# Altium schematic symbol library 2N3904.SchLib: 1 symbol
Pins are listed as number, name and electrical type; pins without a type are passive.

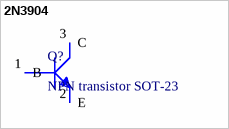
[diagram p0: symbol 2N3904]

## 2N3904
designator Q?, comment NPN transistor SOT-23
footprint SOT23-3
pins: 1 B, 2 E, 3 C